# Altium schematic symbol library Plug-Library.SchLib: 6 symbols
Pins are listed as number, name and electrical type; pins without a type are passive.

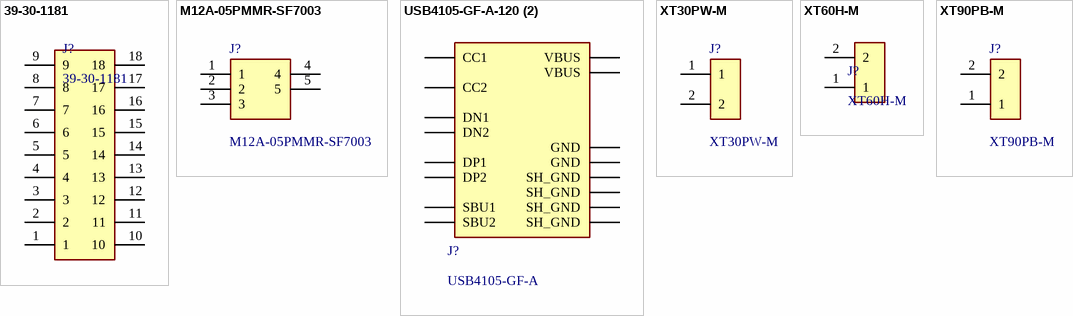
[diagram p0: symbols 39-30-1181 to XT90PB-M]

## 39-30-1181
designator J?
Board Connector, 18 Contact(s), Male, Solder Terminal, Plug; Manufacturer: Molex; Manufacturer Series: 5569; Connector Type: Power,Rectangular; Option: General Purpose; Board Mounting Option: SPLIT BOARD LOCK; Contact Pattern: RECTANGULAR; Contact Resistance: 10mR; Contact Style: SQ PIN-SKT; Dielectric Withstanding Voltage (AC): 1.5kV; Durability: 30Cycles; Empty Shell: No; Insertion Force-Max: 6.672N; Insulation Resistance: 1GR; Mating Information: MULTIPLE MATING PARTS AVAILABLE; Number Of Connectors: 1; Number Of PCB Rows: 2; Polarization Key: HOUSING SIDE; Rated Current (Signal): 6A; Number of Contacts: 18; Withdrawl Force-Min: 3.1136N; Body Breadth: 0.38inch; Body Depth: 0.72inch; Body Length: 1.535inch; Mating Contact Pitch: 0.165inch; Mounting Option 1: POLARIZED LCK; Mounting Option 2: LOCKING; PCB Contact Row Spacing: 5.5118mm; Plating Thickness: 30uin; Reference Standard: UL; Reliability: COMMERCIAL; Supplier: Digikey; Supplier Part Number: 23-0039301181-ND; Manufacturer Part Number: 39-30-1181; RoHS: Yes; Category: Headers and Wire Housings; Stock: 7542; Pricing: 1=5,58, 10=4,741, 100=4,0294, 500=3,7 (USD); Mounting Technology: Board; Contact Material: Brass; Contact Finish - Mating: GOLD (30) OVER NICKEL; Contact Finish - Termination: GOLD (30) OVER NICKEL; Insulation Material: Nylon; Shell Material: POLYAMIDE66; Min Operating Temperature: -40°C; Max Operating Temperature: 105°C; JESD-609 Code: e4; Body/Shell Style: PLUG; Contact Gender: Male; Filter Feature: No; Mixed Contacts: No; Mounting Style: RIGHT ANGLE; Number of Rows Loaded: 2; PCB Contact Pattern: RECTANGULAR; Termination: Solder; Terminal Length: 0.142inch; Terminal Pitch: 4.191mm; Flammability Rating: UL94 V-2; DIN Conformance: No; IEC Conformance: No; MIL Conformance: No; Reach SVHC Compliant: Yes; RoHS Compliant: Yes; ComponentLink1URL: https://datasheet.ciiva.com:443/pdfs/VipMasterIC/IC/MOLE/MOLE-S-A0003537933/MOLE-S-A0003536151-1.pdf?src-supplier=IHS+Markit; ComponentLink1Description: https://datasheet.ciiva.com:443/pdfs/VipMasterIC/IC/MOLE/MOLE-S-A0003537933/MOLE-S-A0003536151-1.pdf?src-supplier=IHS+Markit; ComponentLink2URL: https://datasheet.ciiva.com/712/039300040-sd-712048.pdf?src-supplier=Digikey; ComponentLink2Description: https://datasheet.ciiva.com/712/039300040-sd-712048.pdf?src-supplier=Digikey; ComponentLink3URL: https://datasheet.ciiva.com/16102/855130039301181-pcb-headers-16102615.pdf?src-supplier=Onlinecomponents.com; ComponentLink3Description: https://datasheet.ciiva.com/16102/855130039301181-pcb-headers-16102615.pdf?src-supplier=Onlinecomponents.com; ComponentLink4URL: https://datasheet.ciiva.com/5154/0039301181-pcb-headers-160098-5154574.pdf?src-supplier=Mouser; ComponentLink4Description: https://datasheet.ciiva.com/5154/0039301181-pcb-headers-160098-5154574.pdf?src-supplier=Mouser; ComponentLink5URL: https://datasheet.ciiva.com/11752/0900766b80d5d723-11752989.pdf?src-supplier=Rs; ComponentLink5Description: https://datasheet.ciiva.com/11752/0900766b80d5d723-11752989.pdf?src-supplier=Rs; ComponentLink6URL: https://datasheet.ciiva.com/9449/0039301181-pcb-headers-9449382.pdf?src-supplier=Avnet; ComponentLink6Description: https://datasheet.ciiva.com/9449/0039301181-pcb-headers-9449382.pdf?src-supplier=Avnet; ComponentLink7URL: https://datasheet.ciiva.com/49273/304282-49273830.pdf?src-supplier=Jameco; ComponentLink7Description: https://datasheet.ciiva.com/49273/304282-49273830.pdf?src-supplier=Jameco; Supplier 1: Digikey; Supplier Part Number 1: 23-0039301181-ND
footprint 39-30-1181
pins: 1, 2, 3, 4, 5, 6, 7, 8, 9, 10, 11, 12, 13, 14, 15, 16, 17, 18

## M12A-05PMMR-SF7003
designator J?
M12, A Code, 4A, 05 pins, Male Contact, Hexagonal, M12*1.0, PCB 90ø, Front Fastened, IP67; Manufacturer_Name: Amphenol; Manufacturer: Amphenol LTW; Geometry.Height: 15mm; Connector Type: Signal; Number of Positions: 5; Voltage Rating: 60V; Manufacturer_Part_Number: M12A-05PMMR-SF7003; Mouser Part Number: 523-M12A05PMMRSF7003; Mouser Price/Stock: https://www.mouser.co.uk/ProductDetail/Amphenol-LTW/M12A-05PMMR-SF7003?qs=f9yNj16SXrIdWSE1H9dLLQ%3D%3D; Arrow Part Number: M12A-05PMMR-SF7003; Arrow Price/Stock: https://www.arrow.com/en/products/m12a-05pmmr-sf7003/amphenol?utm_currency=USD&region=nac; Datasheet Link: https://amphenolltw.com/down.php?prod_files=605433; Supplier: Avnet; Supplier Part Number: 50AC2957; Manufacturer Part Number: M12A-05PMMR-SF7003; RoHS: Compliant; Category: Circular Connectors; Stock: 32; Current Rating: 4A; Gender: Male; Lifecycle Status: Production; Pins: 5; ComponentLink1URL: https://datasheet.octopart.com:443/M12A-05PMMR-SF7003-Amphenol-datasheet-182346588.pdf?src-supplier=IHS; ComponentLink1Description: https://datasheet.octopart.com:443/M12A-05PMMR-SF7003-Amphenol-datasheet-182346588.pdf?src-supplier=IHS; ComponentLink2URL: https://datasheet.octopart.com:443/M12A-05PMMR-SF7003-Amphenol-LTW-datasheet-184719079.pdf?src-supplier=TME; ComponentLink2Description: https://datasheet.octopart.com:443/M12A-05PMMR-SF7003-Amphenol-LTW-datasheet-184719079.pdf?src-supplier=TME; ComponentLink3URL: https://datasheet.octopart.com:443/M12A-05PMMR-SF7003-Amphenol-LTW-datasheet-180194516.pdf?src-supplier=JRH+Electronics; ComponentLink3Description: https://datasheet.octopart.com:443/M12A-05PMMR-SF7003-Amphenol-LTW-datasheet-180194516.pdf?src-supplier=JRH+Electronics
footprint M12A05PMMRSF7003
pins: 1, 2, 3, 4, 5

## USB4105-GF-A-120 (2)
designator J?, comment USB4105-GF-A
USB Type-C Receptacle, 16-Pin (USB 2.0), Right Angle, Hybrid Mount (SMD Contacts, THT Shield); Manufacturer: Global Connector Technology; Manufacturer Part Number: USB4105-GF-A-120; Description: USB Connector, 24 Contact(s), Female, Right Angle, Solder Terminal, Locking, Receptacle; Contact Resistance: 50mΩ; Current Rating: 5A; Dielectric Material: Liquid Crystal Polymer; Gender: Female; Insulation Resistance: 100MΩ; Number of Ports: 1; Number of Positions: 24; Supplier: Future Electronics; Supplier Part Number: USB4105-GF-A-120; RoHS: Compliant; Category: USB Connectors; Stock: 12000; Pricing: 800=0,41, 1600=0,4, 3200=0,395, 4000=0,39 (USD); China RoHS: Compliant; Color: Black; Country of Origin: Mainland China; Export Control Classification Number (ECCN) Code: EAR99; Harmonized Tariff Schedule (HTS) Code: 8536.69.40.30; Introduction Date: 2021-04-29; Lifecycle Status: Production; Max Operating Temperature: 85°C; Min Operating Temperature: -40°C; Pins: 16; Number of Rows: 1; Orientation: Horizontal; REACH SVHC: Yes; Shell Finish: Nickel; Shell Material: Stainless Steel; Terminal Pitch: 500µm; ComponentLink1URL: https://datasheet.octopart.com:443/USB4105-GF-A-120-Global-Connector-Technology-datasheet-166929323.pdf?src-supplier=IHS; ComponentLink1Description: https://datasheet.octopart.com:443/USB4105-GF-A-120-Global-Connector-Technology-datasheet-166929323.pdf?src-supplier=IHS; ComponentLink2URL: https://datasheet.octopart.com:443/USB4105-GF-A-120-GCT-datasheet-188935996.pdf?src-supplier=TME; ComponentLink2Description: https://datasheet.octopart.com:443/USB4105-GF-A-120-GCT-datasheet-188935996.pdf?src-supplier=TME; ComponentLink3URL: https://datasheet.octopart.com:443/USB4105-GF-A-120-GCT-datasheet-188869076.pdf?src-supplier=TME; ComponentLink3Description: https://datasheet.octopart.com:443/USB4105-GF-A-120-GCT-datasheet-188869076.pdf?src-supplier=TME; ComponentLink4URL: https://datasheet.octopart.com:443/USB4105-GF-A-120-GCT-datasheet-166927665.pdf?src-supplier=TME; ComponentLink4Description: https://datasheet.octopart.com:443/USB4105-GF-A-120-GCT-datasheet-166927665.pdf?src-supplier=TME
footprint GCT_USB4105-GF-A-120
pins: A1_B12 GND (power), A4_B9 VBUS (power), A5 CC1, A6 DP1, A7 DN1, A8 SBU1, B1_A12 GND (power), B4_A9 VBUS (power), B5 CC2, B6 DP2, B7 DN2, B8 SBU2, SH1 SH_GND (power), SH2 SH_GND (power), SH3 SH_GND (power), SH4 SH_GND (power)

## XT30PW-M
designator J?
Plug; XT30; Male; 30A; Low Temperature Rise Fire Retardant; Manufacturer_Name: Amass; Geometry.Height: 5mm; Manufacturer_Part_Number: XT30PW-M; Mouser Part Number: *; Mouser Price/Stock: *; Arrow Part Number: *; Arrow Price/Stock: *; Datasheet Link: https://www.tme.eu/sl/Document/ce4077e36b79046da520ca73227e15de/XT30PW%20SPEC.pdf; ComponentLink1URL: https://datasheet.octopart.com/XT30PW-M-Amass-datasheet-165556440.pdf?src-supplier=TME; ComponentLink1Description: https://datasheet.octopart.com/XT30PW-M-Amass-datasheet-165556440.pdf?src-supplier=TME
footprint XT30PWM
pins: 1, 2

## XT60H-M
designator J?
Socket; DC supply; XT60; Male; PIN: 2
footprint XT60H-M
pins: 1, 2

## XT90PB-M
designator J?
Socket; DC supply; XT90; male; PIN: 2; on PCBs; THT; yellow; 40A; 500V; Manufacturer_Name: Amass; Geometry.Height: 19.7mm; Manufacturer_Part_Number: XT90PB-M; Mouser Part Number: *; Mouser Price/Stock: *; Arrow Part Number: *; Arrow Price/Stock: *; Datasheet Link: https://www.china-amass.com/biao/439.html; ComponentLink1Description: Octopart:; ComponentLink1URL: https://octopart.com/xt90pb-m-amass-118051301
footprint XT90PB-M
pins: 1, 2